# EAGLE library part HX711 (library 111_hx711)
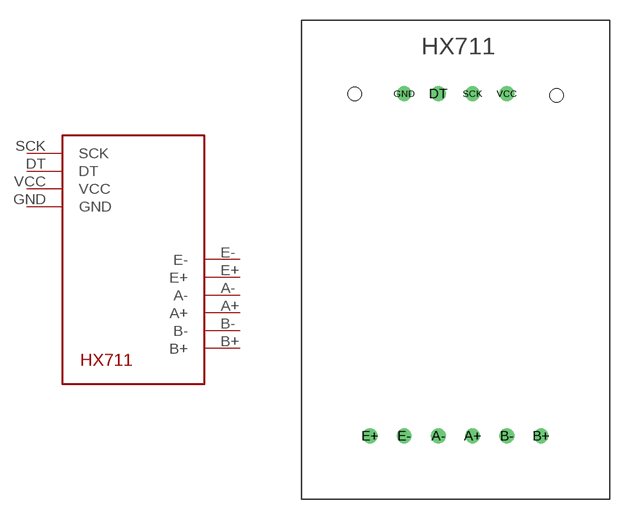
[diagram p0: symbol with the pads of HX711; footprint HX711]

Designator prefix -

## HX711  [HX711]
A+  A+
A-  A-
B+  B+
B-  B-
DT  DT
E+  E+
E-  E-
GND  GND
SCK  SCK
VCC  VCC

## Footprint HX711 (pad centres in mm)
drill 0.6: A+ 1.27,-13.081; A- -1.27,-13.081; B+ 6.35,-13.081; B- 3.81,-13.081; DT -1.27,12.319; E+ -6.35,-13.081; E- -3.81,-13.081; GND -3.81,12.319; SCK 1.27,12.319; VCC 3.81,12.319
hole 1 at 7.493,12.192
hole 1 at -7.493,12.319